# EAGLE library part NRF52-SHIELD (library nrf52-shield)
nRF5 devkit shield
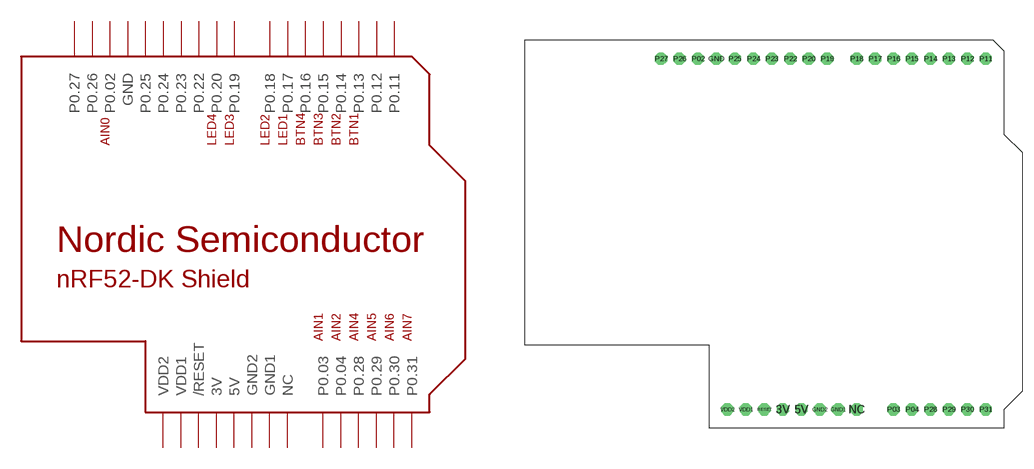
[diagram p0: symbol with the pads of NRF52-SHIELD; footprint NRF52-SHIELD]

Designator prefix -

## NRF52-SHIELD-NOTEXT  [NRF52-SHIELD]
3V  3V  pwr
5V  5V  pwr
GND  GND  pwr
GND1  GND1  pwr
GND2  GND2  pwr
NC  NC  nc
P02  P0.02
P03  P0.03
P04  P0.04
P11  P0.11
P12  P0.12
P13  P0.13
P14  P0.14
P15  P0.15
P16  P0.16
P17  P0.17
P18  P0.18
P19  P0.19
P20  P0.20
P22  P0.22
P23  P0.23
P24  P0.24
P25  P0.25
P26  P0.26
P27  P0.27
P28  P0.28
P29  P0.29
P30  P0.30
P31  P0.31
RESET  /RESET
VDD1  VDD2  pwr
VDD2  VDD1  pwr

## Footprint NRF52-SHIELD (pad centres in mm)
For nRF5 DK shield
drill 1 pad 1.676 octagon: 3V 35.56,2.54; 5V 38.1,2.54; GND 26.416,50.8; GND1 43.18,2.54; GND2 40.64,2.54; NC 45.72,2.54; P02 23.876,50.8; P03 50.8,2.54; P04 53.34,2.54; P11 63.5,50.8; P12 60.96,50.8; P13 58.42,50.8; P14 55.88,50.8; P15 53.34,50.8; P16 50.8,50.8; P17 48.26,50.8; P18 45.72,50.8; P19 41.656,50.8; P20 39.116,50.8; P22 36.576,50.8; P23 34.036,50.8; P24 31.496,50.8; P25 28.956,50.8; P26 21.336,50.8; P27 18.796,50.8; P28 55.88,2.54; P29 58.42,2.54; P30 60.96,2.54; P31 63.5,2.54; RESET 33.02,2.54; VDD1 30.48,2.54; VDD2 27.94,2.54